# Altium schematic symbol library Schema.SchLib: 8 symbols
Pins are listed as number, name and electrical type; pins without a type are passive.

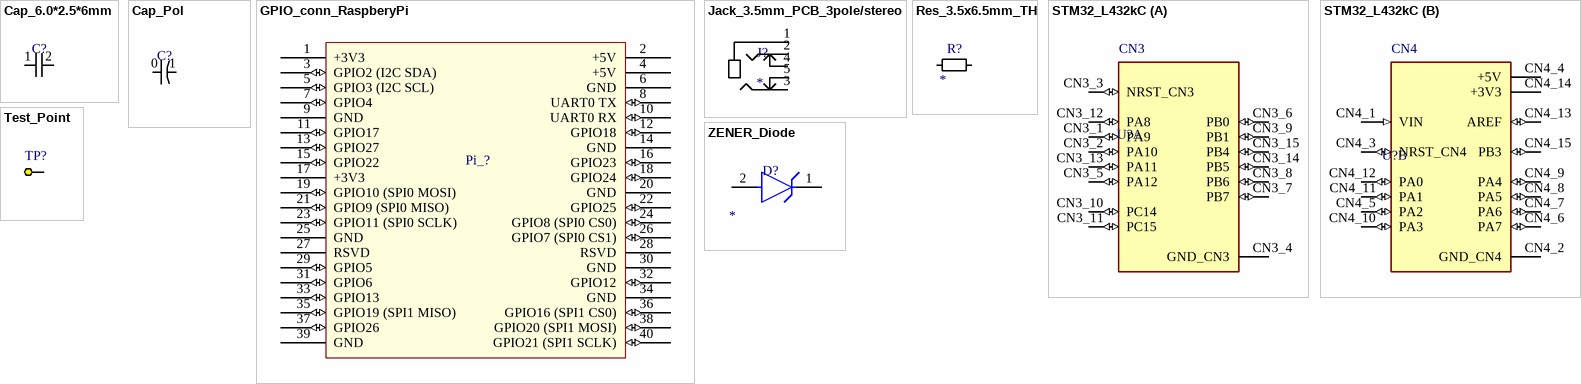
[diagram p0: symbols Cap_6.0*2.5*6mm to ZENER_Diode]

## Cap_6.0*2.5*6mm
designator C?
footprint Cap_6.0%2A2.5%2A6mm (Footprint not found)
pins: 1, 2

## Cap_Pol
designator C?  (value not drawn)
Value: *
footprint Cap_Pol_1cm_5mmPads_15mmmHigh
pins: 0, 1

## GPIO_conn_RaspberyPi
designator Pi_?
footprint Pi_20x2_pins_Male (.025 SQ Post Terminal Strip Assembly, 2x20 Pins, Vertical, 2.54mm Pitch, Male)
pins: 1 +3V3 (power), 2 +5V (power), 3 GPIO2 (I2C SDA) (io), 4 +5V (power), 5 GPIO3 (I2C SCL) (io), 6 GND (power), 7 GPIO4 (io), 8 UART0 TX (io), 9 GND (power), 10 UART0 RX (io), 11 GPIO17 (io), 12 GPIO18 (io), 13 GPIO27 (io), 14 GND (power), 15 GPIO22 (io), 16 GPIO23 (io), 17 +3V3 (power), 18 GPIO24 (io), 19 GPIO10 (SPI0 MOSI) (io), 20 GND (power), 21 GPIO9 (SPI0 MISO) (io), 22 GPIO25 (io), 23 GPIO11 (SPI0 SCLK) (io), 24 GPIO8 (SPI0 CS0) (io), 25 GND (power), 26 GPIO7 (SPI0 CS1) (io), 27 RSVD, 28 RSVD, 29 GPIO5 (io), 30 GND (power), 31 GPIO6 (io), 32 GPIO12 (io), 33 GPIO13 (io), 34 GND, 35 GPIO19 (SPI1 MISO) (io), 36 GPIO16 (SPI1 CS0) (io), 37 GPIO26 (io), 38 GPIO20 (SPI1 MOSI) (io), 39 GND (power), 40 GPIO21 (SPI1 SCLK) (io)

## Jack_3.5mm_PCB_3pole/stereo
designator J?
footprint Jack_3.5mm_PCB_ 3poles/stereo (Footprint not found)
pins: 1, 2, 3, 4, 5

## Res_3.5x6.5mm_TH
designator R?
Value: *
footprint Res_Axial_3.5x6.5mm_TH (Footprint not found)
pins: 0  , 1

## STM32_L432kC
designator U?
footprint MODULE_NUCLEO-L432KC
footprint MODULE_NUCLEO-L432KC (Footprint not found)
part A pins: CN3_1 PA9 (io), CN3_2 PA10 (io), CN3_3 NRST_CN3 (io), CN3_4 GND_CN3 (power), CN3_5 PA12 (io), CN3_6 PB0 (io), CN3_7 PB7 (io), CN3_8 PB6 (io), CN3_9 PB1 (io), CN3_10 PC14 (io), CN3_11 PC15 (io), CN3_12 PA8 (io), CN3_13 PA11 (io), CN3_14 PB5 (io), CN3_15 PB4 (io)
part B pins: CN4_1 VIN (in), CN4_2 GND_CN4 (power), CN4_3 NRST_CN4 (io), CN4_4 +5V (power), CN4_5 PA2 (io), CN4_6 PA7 (io), CN4_7 PA6 (io), CN4_8 PA5 (io), CN4_9 PA4 (io), CN4_10 PA3 (io), CN4_11 PA1 (io), CN4_12 PA0 (io), CN4_13 AREF (io), CN4_14 +3V3 (power), CN4_15 PB3 (io)
part A text: CN3
part B text: CN4

## Test_Point
designator TP?
footprint Test_Point_Hook (Footprint not found)
footprint Test_Point_Surface (Footprint not found)
pins: Tp? 0

## ZENER_Diode
designator D?
Value: *
footprint Zener_Diode
pins: 1 C, 2 A